# Altium footprint library Components - 05.01.21 - 10.45.PcbLib: 1 footprints
Each footprint in its own frame and in the unit in brackets; x right, y up, seen from the top. Pads: shape width x height; smd on the part's side, far side on the other; paste and mask are expansions set on the pad; w line width, h text height; cw(c..) or ccw(c..) is an arc to the next point about the centre after c.
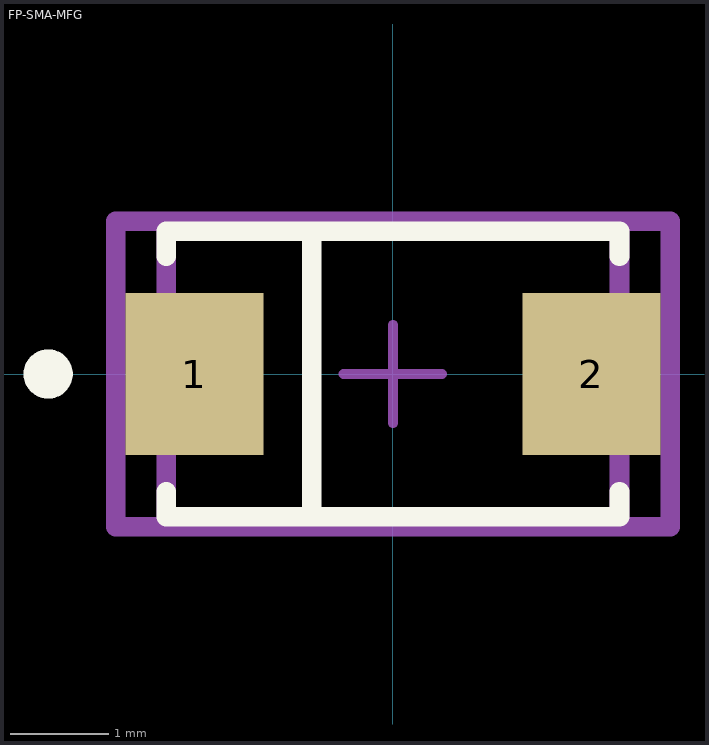
[diagram p0: the footprint, top view; thin cyan lines are the x and y axes]

## FP-SMA-MFG [mm]
pads (2):
  rect 1.4x1.64 smd paste+0 mask+0: 1(-2.015,0) 2(2.015,0)
Top Overlay:
  circle w0.25: c-3.5,0 r0.125
  lines w0.2: -2.3,-1.195 -2.3,-1.45 2.3,-1.45 2.3,-1.195 ; -2.3,1.195 -2.3,1.45 2.3,1.45 2.3,1.195 ; -0.825,-1.35 -0.825,1.35
Mechanical 5:
  lines w0.2: -2.815,-1.55 2.815,-1.55 2.815,1.55 -2.815,1.55 -2.815,-1.55
  text ".Designator" at 0,-0.001 h1
Mechanical 13:
  lines w0.2: -2.3,-1.45 2.3,-1.45 2.3,1.45 -2.3,1.45 -2.3,-1.45
Mechanical 15:
  lines w0.2: -2.815,-1.55 2.815,-1.55 2.815,1.55 -2.815,1.55 -2.815,-1.55
Mechanical 16:
  lines w0.1: -0.5,0 0.5,0 ; 0,-0.5 0,0.5
3D body "Diode_STMicroelectronics_SMAJ5_0A-TR_eec.STEP": height 0.25, standoff 0, extent -2.815,-1.55 2.815,1.55